# Altium integrated library Microchip Interface.IntLib: 329 symbols (part 2 of 10)
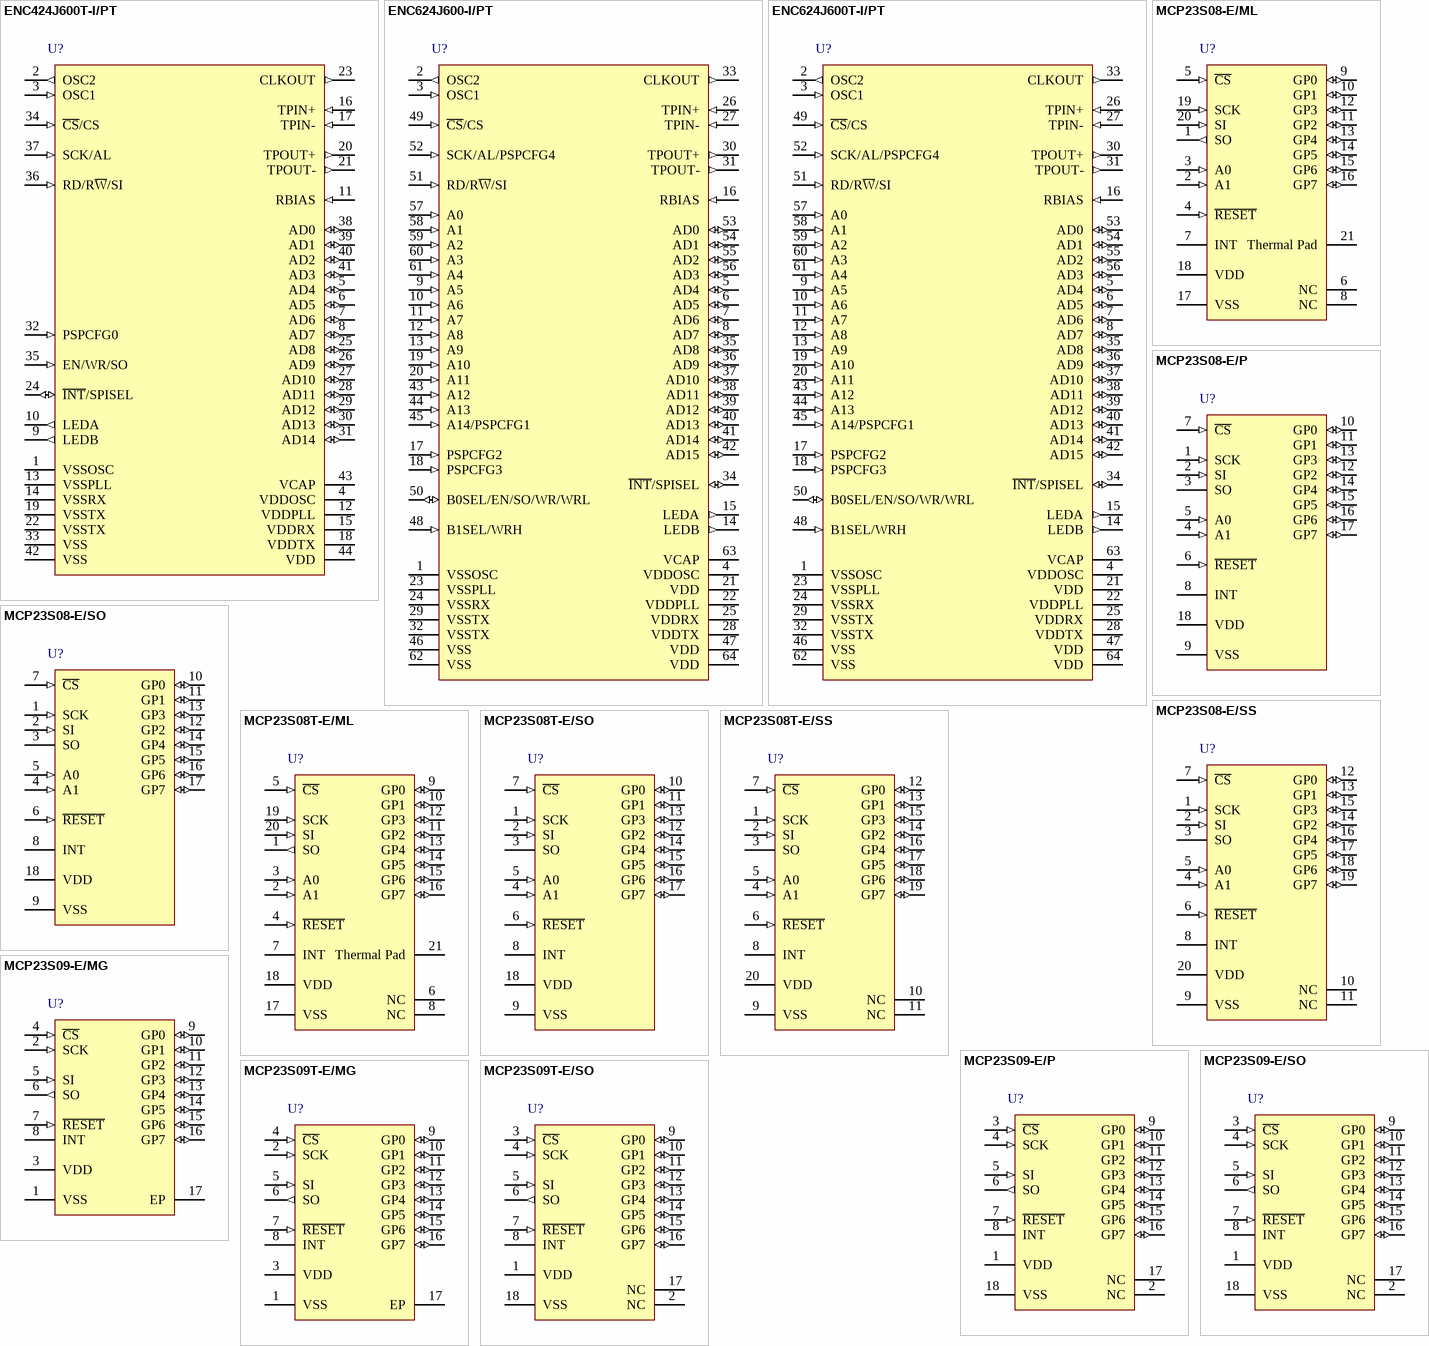
[diagram p14: symbols ENC424J600T-I/PT to MCP23S09T-E/SO]

## MCP23S08-E/P
designator U?
8-Bit I/O Expander with Serial Interface, 18-Pin PDIP, Extended Temperature; Manufacturer: Microchip; PartNumber: MCP23S08-E/P; DatasheetVersion: revE, Aug-2007; PackageVersion: revBB, Aug-2009; PackageReference: PDIP300-P18; PackageDescription: 18-Lead Plastic Dual In-Line (P) - 300 mil Body [PDIP]; Supplier 1: Digi-Key; Supplier Part Number 1: MCP23S08-E/P-ND; Supplier 2: Farnell; Supplier Part Number 2: 1332091; Supplier 3: Newark; Supplier Part Number 3: 34M7436; Supplier 4: Newark; Supplier Part Number 4: 08J8732; Supplier 5: Mouser; Supplier Part Number 5: 579-MCP23S08-E/P; Mounting Technology: Through Hole; Code_JEDEC: MS-001; ComponentLink1Description: Manufacturer URL; ComponentLink1URL: http://www.microchip.com/; ComponentLink2Description: Datasheet; ComponentLink2URL: http://ww1.microchip.com/downloads/en/DeviceDoc/21919e.pdf; ComponentLink3Description: Package Specification; ComponentLink3URL: http://www.microchip.com/stellent/groups/techpub_sg/documents/packagingspec/en012702.pdf
footprint PDIP300-P18 (DIP, 18-Leads, Row Spacing 7.62mm, Pitch 2.54mm, Body 22.9x6.6mm)
pins: 1 SCK (in), 2 SI (in), 3 SO (hiz), 4 A1 (in), 5 A0 (in), 6 ~{RESET} (in), 7 ~{CS} (in), 8 INT (oc), 9 VSS (power), 10 GP0 (io), 11 GP1 (io), 12 GP2 (io), 13 GP3 (io), 14 GP4 (io), 15 GP5 (io), 16 GP6 (io), 17 GP7 (io), 18 VDD (power)

## MCP23S08-E/SO
designator U?
8-Bit I/O Expander with Serial Interface, 18-Pin SOIC, Extended Temperature; Manufacturer: Microchip; PartNumber: MCP23S08-E/SO; DatasheetVersion: revE, Aug-2007; PackageVersion: revBB, Aug-2009; PackageReference: SOIC-SO18; PackageDescription: 18-Lead Plastic Small Outline (SO) - Wide 7.50mm Body [SOIC]; Supplier 1: Digi-Key; Supplier Part Number 1: MCP23S08-E/SO-ND; Supplier 2: Farnell; Supplier Part Number 2: 1332092; Supplier 3: Newark; Supplier Part Number 3: 08J8733; Supplier 4: Mouser; Supplier Part Number 4: 579-MCP23S08-E/SO; Mounting Technology: Surface Mount; Code_JEDEC: MS-013; ComponentLink1Description: Manufacturer URL; ComponentLink1URL: http://www.microchip.com/; ComponentLink2Description: Datasheet; ComponentLink2URL: http://ww1.microchip.com/downloads/en/DeviceDoc/21919e.pdf; ComponentLink3Description: Package Specification; ComponentLink3URL: http://www.microchip.com/stellent/groups/techpub_sg/documents/packagingspec/en012702.pdf
footprint SOIC-SO18_N (SOIC, 18-Leads, Body 11.5x7.5mm, Pitch 1.27mm, IPC Medium Density)
footprint SOIC-SO18_L (SOIC, 18-Leads, Body 11.5x7.5mm, Pitch 1.27mm, IPC High Density)
footprint SOIC-SO18_M (SOIC, 18-Leads, Body 11.5x7.5mm, Pitch 1.27mm, IPC Low Density)
pins: 1 SCK (in), 2 SI (in), 3 SO (hiz), 4 A1 (in), 5 A0 (in), 6 ~{RESET} (in), 7 ~{CS} (in), 8 INT (oc), 9 VSS (power), 10 GP0 (io), 11 GP1 (io), 12 GP2 (io), 13 GP3 (io), 14 GP4 (io), 15 GP5 (io), 16 GP6 (io), 17 GP7 (io), 18 VDD (power)

## MCP23S08-E/SS
designator U?
8-Bit I/O Expander with Serial Interface, 20-Pin SSOP, Extended Temperature; Manufacturer: Microchip; PartNumber: MCP23S08-E/SS; DatasheetVersion: revE, Aug-2007; PackageVersion: revBB, Aug-2009; PackageReference: SSOP-SS20; PackageDescription: 20-Lead Plastic Shrink Small Outline (SS) - 5.3mm Body [SSOP]; Supplier 1: Digi-Key; Supplier Part Number 1: MCP23S08-E/SS-ND; Supplier 2: Farnell; Supplier Part Number 2: 1292236; Supplier 3: Newark; Supplier Part Number 3: 08J8734; Supplier 4: Mouser; Supplier Part Number 4: 579-MCP23S08-E/SS; Mounting Technology: Surface Mount; Code_JEDEC: MO-150; ComponentLink1Description: Manufacturer URL; ComponentLink1URL: http://www.microchip.com/; ComponentLink2Description: Datasheet; ComponentLink2URL: http://ww1.microchip.com/downloads/en/DeviceDoc/21919e.pdf; ComponentLink3Description: Package Specification; ComponentLink3URL: http://www.microchip.com/stellent/groups/techpub_sg/documents/packagingspec/en012702.pdf
footprint SSOP-SS20_N (SOP, 20-Leads, Body 7.2x5.2mm, Pitch 0.65mm, IPC Medium Density)
footprint SSOP-SS20_L (SOP, 20-Leads, Body 7.2x5.2mm, Pitch 0.65mm, IPC High Density)
footprint SSOP-SS20_M (SOP, 20-Leads, Body 7.2x5.2mm, Pitch 0.65mm, IPC Low Density)
pins: 1 SCK (in), 2 SI (in), 3 SO (hiz), 4 A1 (in), 5 A0 (in), 6 ~{RESET} (in), 7 ~{CS} (in), 8 INT (oc), 9 VSS (power), 10 NC, 11 NC, 12 GP0 (io), 13 GP1 (io), 14 GP2 (io), 15 GP3 (io), 16 GP4 (io), 17 GP5 (io), 18 GP6 (io), 19 GP7 (io), 20 VDD (power)

## MCP23S08T-E/ML
designator U?
8-Bit I/O Expander with Serial Interface, 20-Pin QFN, Extended Temperature, Tape and Reel; Manufacturer: Microchip; PartNumber: MCP23S08T-E/ML; DatasheetVersion: revE, Aug-2007; PackageVersion: revBB, Aug-2009; PackageReference: QFN-ML20; PackageDescription: 20-Lead Plastic Quad Flat, No Lead Package (ML) - 4x4x0.9 mm Body [QFN]; Supplier 1: Digi-Key; Supplier Part Number 1: MCP23S08T-E/ML-ND; Supplier 2: Mouser; Supplier Part Number 2: 579-MCP23S08T-E/ML; Mounting Technology: Surface Mount; ComponentLink1Description: Manufacturer URL; ComponentLink1URL: http://www.microchip.com/; ComponentLink2Description: Datasheet; ComponentLink2URL: http://ww1.microchip.com/downloads/en/DeviceDoc/21919e.pdf; ComponentLink3Description: Package Specification; ComponentLink3URL: http://www.microchip.com/stellent/groups/techpub_sg/documents/packagingspec/en012702.pdf
footprint QFN-ML20_N (QFN, 20-Leads, Body 4x4mm, Pitch 0.5mm, Thermal Pad 2.8x2.8mm, IPC Medium Density)
footprint QFN-ML20_L (QFN, 20-Leads, Body 4x4mm, Pitch 0.5mm, Thermal Pad 2.8x2.8mm, IPC High Density)
footprint QFN-ML20_M (QFN, 20-Leads, Body 4x4mm, Pitch 0.5mm, Thermal Pad 2.8x2.8mm, IPC Low Density)
pins: 1 SO (out), 2 A1 (in), 3 A0 (in), 4 ~{RESET} (in), 5 ~{CS} (in), 6 NC, 7 INT (oc), 8 NC, 9 GP0 (io), 10 GP1 (io), 11 GP2 (io), 12 GP3 (io), 13 GP4 (io), 14 GP5 (io), 15 GP6 (io), 16 GP7 (io), 17 VSS (power), 18 VDD (power), 19 SCK (in), 20 SI (in), 21 Thermal Pad

## MCP23S08T-E/SO
designator U?
8-Bit I/O Expander with Serial Interface, 18-Pin SOIC, Extended Temperature, Tape and Reel; Manufacturer: Microchip; PartNumber: MCP23S08T-E/SO; DatasheetVersion: revE, Aug-2007; PackageVersion: revBB, Aug-2009; PackageReference: SOIC-SO18; PackageDescription: 18-Lead Plastic Small Outline (SO) - Wide 7.50mm Body [SOIC]; Supplier 1: Digi-Key; Supplier Part Number 1: MCP23S08T-E/SO-ND; Supplier 2: Newark; Supplier Part Number 2: 08J8735; Supplier 3: Mouser; Supplier Part Number 3: 579-MCP23S08T-E/SO; Mounting Technology: Surface Mount; Code_JEDEC: MS-013; ComponentLink1Description: Manufacturer URL; ComponentLink1URL: http://www.microchip.com/; ComponentLink2Description: Datasheet; ComponentLink2URL: http://ww1.microchip.com/downloads/en/DeviceDoc/21919e.pdf; ComponentLink3Description: Package Specification; ComponentLink3URL: http://www.microchip.com/stellent/groups/techpub_sg/documents/packagingspec/en012702.pdf
footprint SOIC-SO18_N (SOIC, 18-Leads, Body 11.5x7.5mm, Pitch 1.27mm, IPC Medium Density)
footprint SOIC-SO18_L (SOIC, 18-Leads, Body 11.5x7.5mm, Pitch 1.27mm, IPC High Density)
footprint SOIC-SO18_M (SOIC, 18-Leads, Body 11.5x7.5mm, Pitch 1.27mm, IPC Low Density)
pins: 1 SCK (in), 2 SI (in), 3 SO (hiz), 4 A1 (in), 5 A0 (in), 6 ~{RESET} (in), 7 ~{CS} (in), 8 INT (oc), 9 VSS (power), 10 GP0 (io), 11 GP1 (io), 12 GP2 (io), 13 GP3 (io), 14 GP4 (io), 15 GP5 (io), 16 GP6 (io), 17 GP7 (io), 18 VDD (power)

## MCP23S08T-E/SS
designator U?
8-Bit I/O Expander with Serial Interface, 20-Pin SSOP, Extended Temperature, Tape and Reel; Manufacturer: Microchip; PartNumber: MCP23S08T-E/SS; DatasheetVersion: revE, Aug-2007; PackageVersion: revBB, Aug-2009; PackageReference: SSOP-SS20; PackageDescription: 20-Lead Plastic Shrink Small Outline (SS) - 5.3mm Body [SSOP]; Supplier 1: Digi-Key; Supplier Part Number 1: MCP23S08T-E/SS-ND; Supplier 2: Mouser; Supplier Part Number 2: 579-MCP23S08T-E/SS; Mounting Technology: Surface Mount; Code_JEDEC: MO-150; ComponentLink1Description: Manufacturer URL; ComponentLink1URL: http://www.microchip.com/; ComponentLink2Description: Datasheet; ComponentLink2URL: http://ww1.microchip.com/downloads/en/DeviceDoc/21919e.pdf; ComponentLink3Description: Package Specification; ComponentLink3URL: http://www.microchip.com/stellent/groups/techpub_sg/documents/packagingspec/en012702.pdf
footprint SSOP-SS20_N (SOP, 20-Leads, Body 7.2x5.2mm, Pitch 0.65mm, IPC Medium Density)
footprint SSOP-SS20_L (SOP, 20-Leads, Body 7.2x5.2mm, Pitch 0.65mm, IPC High Density)
footprint SSOP-SS20_M (SOP, 20-Leads, Body 7.2x5.2mm, Pitch 0.65mm, IPC Low Density)
pins: 1 SCK (in), 2 SI (in), 3 SO (hiz), 4 A1 (in), 5 A0 (in), 6 ~{RESET} (in), 7 ~{CS} (in), 8 INT (oc), 9 VSS (power), 10 NC, 11 NC, 12 GP0 (io), 13 GP1 (io), 14 GP2 (io), 15 GP3 (io), 16 GP4 (io), 17 GP5 (io), 18 GP6 (io), 19 GP7 (io), 20 VDD (power)

## MCP23S09-E/MG
designator U?
8-Bit I/O Expander with Open-Drain Outputs, High-Speed SPI Interface, 16-Pin QFN, Extended Temperature; Manufacturer: Microchip; PartNumber: MCP23S09-E/MG; DatasheetVersion: revB, May-2009; PackageVersion: revBB, Aug-2009; PackageReference: QFN-MG16; PackageDescription: 16-Lead Plastic Quad Flat, No Lead Package (MG) - 3x3x0.9 mm Body [QFN]; Supplier 1: Digi-Key; Supplier Part Number 1: MCP23S09-E/MG-ND; Supplier 2: Newark; Supplier Part Number 2: 98M1572; Supplier 3: Mouser; Supplier Part Number 3: 579-MCP23S09-E/MG; Mounting Technology: Surface Mount; ComponentLink1Description: Manufacturer URL; ComponentLink1URL: http://www.microchip.com/; ComponentLink2Description: Datasheet; ComponentLink2URL: http://ww1.microchip.com/downloads/en/DeviceDoc/22121b.pdf; ComponentLink3Description: Package Specification; ComponentLink3URL: http://www.microchip.com/stellent/groups/techpub_sg/documents/packagingspec/en012702.pdf
footprint QFN-MG16_N (QFN, 16-Leads, Body 3x3mm, Pitch 0.5mm, Thermal Pad 1.5x1.5mm, IPC Medium Density)
footprint QFN-MG16_L (QFN, 16-Leads, Body 3x3mm, Pitch 0.5mm, Thermal Pad 1.5x1.5mm, IPC High Density)
footprint QFN-MG16_M (QFN, 16-Leads, Body 3x3mm, Pitch 0.5mm, Thermal Pad 1.5x1.5mm, IPC Low Density)
pins: 1 VSS (power), 2 SCK (in), 3 VDD (power), 4 ~{CS} (in), 5 SI (in), 6 SO (out), 7 ~{RESET} (in), 8 INT (oc), 9 GP0 (io), 10 GP1 (io), 11 GP2 (io), 12 GP3 (io), 13 GP4 (io), 14 GP5 (io), 15 GP6 (io), 16 GP7 (io), 17 EP

## MCP23S09-E/P
designator U?
8-Bit I/O Expander with Open-Drain Outputs, High-Speed SPI Interface, 18-Pin PDIP, Extended Temperature; Manufacturer: Microchip; PartNumber: MCP23S09-E/P; DatasheetVersion: revB, May-2009; PackageVersion: revBB, Aug-2009; PackageReference: PDIP300-P18; PackageDescription: 18-Lead Plastic Dual In-Line (P) - 300 mil Body [PDIP]; Supplier 1: Digi-Key; Supplier Part Number 1: MCP23S09-E/P-ND; Supplier 2: Farnell; Supplier Part Number 2: 1699843; Supplier 3: Newark; Supplier Part Number 3: 07P9503; Supplier 4: Mouser; Supplier Part Number 4: 579-MCP23S09-E/P; Mounting Technology: Through Hole; Code_JEDEC: MS-001; ComponentLink1Description: Manufacturer URL; ComponentLink1URL: http://www.microchip.com/; ComponentLink2Description: Datasheet; ComponentLink2URL: http://ww1.microchip.com/downloads/en/DeviceDoc/22121b.pdf; ComponentLink3Description: Package Specification; ComponentLink3URL: http://www.microchip.com/stellent/groups/techpub_sg/documents/packagingspec/en012702.pdf
footprint PDIP300-P18 (DIP, 18-Leads, Row Spacing 7.62mm, Pitch 2.54mm, Body 22.9x6.6mm)
pins: 1 VDD (power), 2 NC, 3 ~{CS} (in), 4 SCK (in), 5 SI (in), 6 SO (out), 7 ~{RESET} (in), 8 INT (oc), 9 GP0 (io), 10 GP1 (io), 11 GP2 (io), 12 GP3 (io), 13 GP4 (io), 14 GP5 (io), 15 GP6 (io), 16 GP7 (io), 17 NC, 18 VSS (power)

## MCP23S09-E/SO
designator U?
8-Bit I/O Expander with Open-Drain Outputs, High-Speed SPI Interface, 18-Pin SOIC, Extended Temperature; Manufacturer: Microchip; PartNumber: MCP23S09-E/SO; DatasheetVersion: revB, May-2009; PackageVersion: revBB, Aug-2009; PackageReference: SOIC-SO18; PackageDescription: 18-Lead Plastic Small Outline (SO) - Wide 7.50mm Body [SOIC]; Supplier 1: Digi-Key; Supplier Part Number 1: MCP23S09-E/SO-ND; Supplier 2: Farnell; Supplier Part Number 2: 1699844; Supplier 3: Newark; Supplier Part Number 3: 07P9504; Supplier 4: Mouser; Supplier Part Number 4: 579-MCP23S09-E/SO; Mounting Technology: Surface Mount; Code_JEDEC: MS-013; ComponentLink1Description: Manufacturer URL; ComponentLink1URL: http://www.microchip.com/; ComponentLink2Description: Datasheet; ComponentLink2URL: http://ww1.microchip.com/downloads/en/DeviceDoc/22121b.pdf; ComponentLink3Description: Package Specification; ComponentLink3URL: http://www.microchip.com/stellent/groups/techpub_sg/documents/packagingspec/en012702.pdf
footprint SOIC-SO18_N (SOIC, 18-Leads, Body 11.5x7.5mm, Pitch 1.27mm, IPC Medium Density)
footprint SOIC-SO18_L (SOIC, 18-Leads, Body 11.5x7.5mm, Pitch 1.27mm, IPC High Density)
footprint SOIC-SO18_M (SOIC, 18-Leads, Body 11.5x7.5mm, Pitch 1.27mm, IPC Low Density)
pins: 1 VDD (power), 2 NC, 3 ~{CS} (in), 4 SCK (in), 5 SI (in), 6 SO (out), 7 ~{RESET} (in), 8 INT (oc), 9 GP0 (io), 10 GP1 (io), 11 GP2 (io), 12 GP3 (io), 13 GP4 (io), 14 GP5 (io), 15 GP6 (io), 16 GP7 (io), 17 NC, 18 VSS (power)

## MCP23S09T-E/MG
designator U?
8-Bit I/O Expander with Open-Drain Outputs, High-Speed SPI Interface, 16-Pin QFN, Extended Temperature, Tape and Reel; Manufacturer: Microchip; PartNumber: MCP23S09T-E/MG; DatasheetVersion: revB, May-2009; PackageVersion: revBB, Aug-2009; PackageReference: QFN-MG16; PackageDescription: 16-Lead Plastic Quad Flat, No Lead Package (MG) - 3x3x0.9 mm Body [QFN]; Supplier 1: Digi-Key; Supplier Part Number 1: MCP23S09T-E/MG-ND; Supplier 2: Newark; Supplier Part Number 2: 98M1573; Supplier 3: Mouser; Supplier Part Number 3: 579-MCP23S09T-E/MG; Mounting Technology: Surface Mount; ComponentLink1Description: Manufacturer URL; ComponentLink1URL: http://www.microchip.com/; ComponentLink2Description: Datasheet; ComponentLink2URL: http://ww1.microchip.com/downloads/en/DeviceDoc/22121b.pdf; ComponentLink3Description: Package Specification; ComponentLink3URL: http://www.microchip.com/stellent/groups/techpub_sg/documents/packagingspec/en012702.pdf
footprint QFN-MG16_N (QFN, 16-Leads, Body 3x3mm, Pitch 0.5mm, Thermal Pad 1.5x1.5mm, IPC Medium Density)
footprint QFN-MG16_L (QFN, 16-Leads, Body 3x3mm, Pitch 0.5mm, Thermal Pad 1.5x1.5mm, IPC High Density)
footprint QFN-MG16_M (QFN, 16-Leads, Body 3x3mm, Pitch 0.5mm, Thermal Pad 1.5x1.5mm, IPC Low Density)
pins: 1 VSS (power), 2 SCK (in), 3 VDD (power), 4 ~{CS} (in), 5 SI (in), 6 SO (out), 7 ~{RESET} (in), 8 INT (oc), 9 GP0 (io), 10 GP1 (io), 11 GP2 (io), 12 GP3 (io), 13 GP4 (io), 14 GP5 (io), 15 GP6 (io), 16 GP7 (io), 17 EP

## MCP23S09T-E/SO
designator U?
8-Bit I/O Expander with Open-Drain Outputs, High-Speed SPI Interface, 18-Pin SOIC, Extended Temperature, Tape and Reel; Manufacturer: Microchip; PartNumber: MCP23S09T-E/SO; DatasheetVersion: revB, May-2009; PackageVersion: revBB, Aug-2009; PackageReference: SOIC-SO18; PackageDescription: 18-Lead Plastic Small Outline (SO) - Wide 7.50mm Body [SOIC]; Supplier 1: Digi-Key; Supplier Part Number 1: MCP23S09T-E/SO-ND; Supplier 2: Mouser; Supplier Part Number 2: 579-MCP23S09T-E/SO; Mounting Technology: Surface Mount; Code_JEDEC: MS-013; ComponentLink1Description: Manufacturer URL; ComponentLink1URL: http://www.microchip.com/; ComponentLink2Description: Datasheet; ComponentLink2URL: http://ww1.microchip.com/downloads/en/DeviceDoc/22121b.pdf; ComponentLink3Description: Package Specification; ComponentLink3URL: http://www.microchip.com/stellent/groups/techpub_sg/documents/packagingspec/en012702.pdf
footprint SOIC-SO18_N (SOIC, 18-Leads, Body 11.5x7.5mm, Pitch 1.27mm, IPC Medium Density)
footprint SOIC-SO18_L (SOIC, 18-Leads, Body 11.5x7.5mm, Pitch 1.27mm, IPC High Density)
footprint SOIC-SO18_M (SOIC, 18-Leads, Body 11.5x7.5mm, Pitch 1.27mm, IPC Low Density)
pins: 1 VDD (power), 2 NC, 3 ~{CS} (in), 4 SCK (in), 5 SI (in), 6 SO (out), 7 ~{RESET} (in), 8 INT (oc), 9 GP0 (io), 10 GP1 (io), 11 GP2 (io), 12 GP3 (io), 13 GP4 (io), 14 GP5 (io), 15 GP6 (io), 16 GP7 (io), 17 NC, 18 VSS (power)

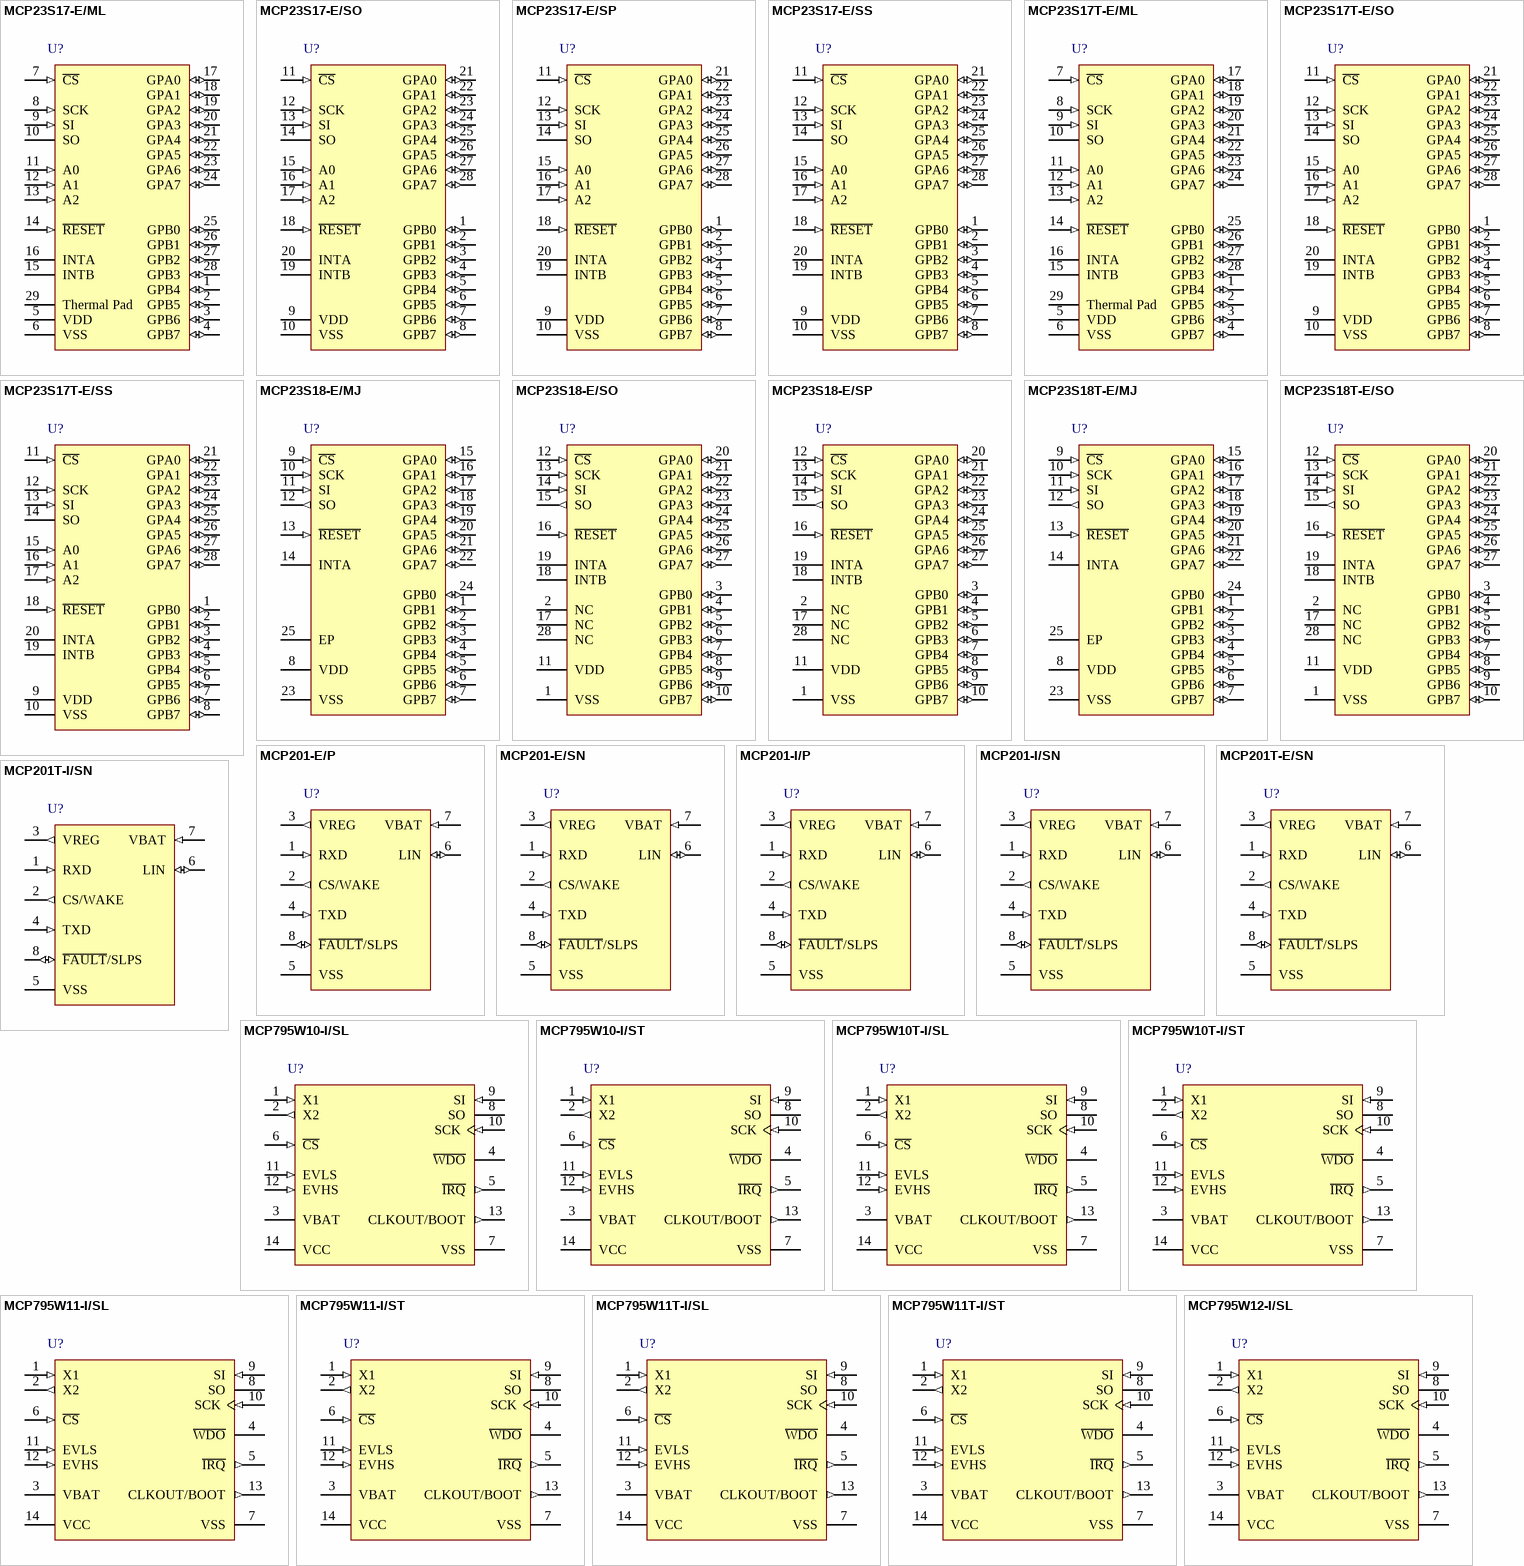
[diagram p3: symbols MCP23S17-E/ML to MCP795W12-I/SL]

## MCP23S17-E/ML
designator U?
16-Bit I/O Expander with Serial Interface, 28-Pin QFN, Extended Temperature; Manufacturer: Microchip; PartNumber: MCP23S17-E/ML; DatasheetVersion: revB, Feb-2007; PackageVersion: revBB, Aug-2009; PackageReference: QFN-ML28; PackageDescription: 28-Lead Plastic Quad Flat, No Lead Package (ML) - 6x6 mm Body [QFN] with 0.55 mm Contact Length; Supplier 1: Digi-Key; Supplier Part Number 1: MCP23S17-E/ML-ND; Supplier 2: Newark; Supplier Part Number 2: 31K2949; Supplier 3: Mouser; Supplier Part Number 3: 579-MCP23S17-E/ML; Mounting Technology: Surface Mount; Code_JEDEC: MO-220; ComponentLink1Description: Manufacturer URL; ComponentLink1URL: http://www.microchip.com/; ComponentLink2Description: Datasheet; ComponentLink2URL: http://ww1.microchip.com/downloads/en/DeviceDoc/21952b.pdf; ComponentLink3Description: Package Specification; ComponentLink3URL: http://www.microchip.com/stellent/groups/techpub_sg/documents/packagingspec/en012702.pdf
footprint QFN-ML28_N (QFN, 28-Leads, Body 6x6mm, Pitch 0.65mm, Thermal Pad 4.2x4.2mm, IPC Medium Density)
footprint QFN-ML28_L (QFN, 28-Leads, Body 6x6mm, Pitch 0.65mm, Thermal Pad 4.2x4.2mm, IPC High Density)
footprint QFN-ML28_M (QFN, 28-Leads, Body 6x6mm, Pitch 0.65mm, Thermal Pad 4.2x4.2mm, IPC Low Density)
pins: 1 GPB4 (io), 2 GPB5 (io), 3 GPB6 (io), 4 GPB7 (io), 5 VDD (power), 6 VSS (power), 7 ~{CS} (in), 8 SCK (in), 9 SI (in), 10 SO (hiz), 11 A0 (in), 12 A1 (in), 13 A2 (in), 14 ~{RESET} (in), 15 INTB (oc), 16 INTA (oc), 17 GPA0 (io), 18 GPA1 (io), 19 GPA2 (io), 20 GPA3 (io), 21 GPA4 (io), 22 GPA5 (io), 23 GPA6 (io), 24 GPA7 (io), 25 GPB0 (io), 26 GPB1 (io), 27 GPB2 (io), 28 GPB3 (io), 29 Thermal Pad

## MCP23S17-E/SO
designator U?
16-Bit I/O Expander with Serial Interface, 28-Pin SOIC, Extended Temperature; Manufacturer: Microchip; PartNumber: MCP23S17-E/SO; DatasheetVersion: revB, Feb-2007; PackageVersion: revBB, Aug-2009; PackageReference: SOIC-SO28; PackageDescription: 28-Lead Plastic Small Outline (SO) - Wide 7.50mm Body [SOIC]; Supplier 1: Digi-Key; Supplier Part Number 1: MCP23S17-E/SO-ND; Supplier 2: Farnell; Supplier Part Number 2: 1332093; Supplier 3: Newark; Supplier Part Number 3: 31K2950; Supplier 4: Mouser; Supplier Part Number 4: 579-MCP23S17-E/SO; Mounting Technology: Surface Mount; Code_JEDEC: MS-013; ComponentLink1Description: Manufacturer URL; ComponentLink1URL: http://www.microchip.com/; ComponentLink2Description: Datasheet; ComponentLink2URL: http://ww1.microchip.com/downloads/en/DeviceDoc/21952b.pdf; ComponentLink3Description: Package Specification; ComponentLink3URL: http://www.microchip.com/stellent/groups/techpub_sg/documents/packagingspec/en012702.pdf
footprint SOIC-SO28_N (SOIC, 28-Leads, Body 17.9x7.5mm, Pitch 1.27mm, IPC Medium Density)
footprint SOIC-SO28_L (SOIC, 28-Leads, Body 17.9x7.5mm, Pitch 1.27mm, IPC High Density)
footprint SOIC-SO28_M (SOIC, 28-Leads, Body 17.9x7.5mm, Pitch 1.27mm, IPC Low Density)
pins: 1 GPB0 (io), 2 GPB1 (io), 3 GPB2 (io), 4 GPB3 (io), 5 GPB4 (io), 6 GPB5 (io), 7 GPB6 (io), 8 GPB7 (io), 9 VDD (power), 10 VSS (power), 11 ~{CS} (in), 12 SCK (in), 13 SI (in), 14 SO (hiz), 15 A0 (in), 16 A1 (in), 17 A2 (in), 18 ~{RESET} (in), 19 INTB (oc), 20 INTA (oc), 21 GPA0 (io), 22 GPA1 (io), 23 GPA2 (io), 24 GPA3 (io), 25 GPA4 (io), 26 GPA5 (io), 27 GPA6 (io), 28 GPA7 (io)

## MCP23S17-E/SP
designator U?
16-Bit I/O Expander with Serial Interface, 28-Pin SPDIP, Extended Temperature; Manufacturer: Microchip; PartNumber: MCP23S17-E/SP; DatasheetVersion: revB, Feb-2007; PackageVersion: revBB, Aug-2009; PackageReference: SPDIP300-SP28; PackageDescription: 28-Lead Skinny Plastic Dual In-Line (SP) - 300 mil Body [SPDIP]; Supplier 1: Digi-Key; Supplier Part Number 1: MCP23S17-E/SP-ND; Supplier 2: Farnell; Supplier Part Number 2: 1292238; Supplier 3: Newark; Supplier Part Number 3: 31K2951; Supplier 4: Mouser; Supplier Part Number 4: 579-MCP23S17-E/SP; Mounting Technology: Through Hole; ComponentLink1Description: Manufacturer URL; ComponentLink1URL: http://www.microchip.com/; ComponentLink2Description: Datasheet; ComponentLink2URL: http://ww1.microchip.com/downloads/en/DeviceDoc/21952b.pdf; ComponentLink3Description: Package Specification; ComponentLink3URL: http://www.microchip.com/stellent/groups/techpub_sg/documents/packagingspec/en012702.pdf
footprint SPDIP300-SP28 (DIP, 28-Leads, Row Spacing 7.62mm, Pitch 2.54mm, Body 34.9x6.8mm)
pins: 1 GPB0 (io), 2 GPB1 (io), 3 GPB2 (io), 4 GPB3 (io), 5 GPB4 (io), 6 GPB5 (io), 7 GPB6 (io), 8 GPB7 (io), 9 VDD (power), 10 VSS (power), 11 ~{CS} (in), 12 SCK (in), 13 SI (in), 14 SO (hiz), 15 A0 (in), 16 A1 (in), 17 A2 (in), 18 ~{RESET} (in), 19 INTB (oc), 20 INTA (oc), 21 GPA0 (io), 22 GPA1 (io), 23 GPA2 (io), 24 GPA3 (io), 25 GPA4 (io), 26 GPA5 (io), 27 GPA6 (io), 28 GPA7 (io)

## MCP23S17-E/SS
designator U?
16-Bit I/O Expander with Serial Interface, 28-Pin SSOP, Extended Temperature; Manufacturer: Microchip; PartNumber: MCP23S17-E/SS; DatasheetVersion: revB, Feb-2007; PackageVersion: revBB, Aug-2009; PackageReference: SSOP-SS28; PackageDescription: 28-Lead Plastic Shrink Small Outline (SS) - 5.3mm Body [SSOP]; Supplier 1: Digi-Key; Supplier Part Number 1: MCP23S17-E/SS-ND; Supplier 2: Farnell; Supplier Part Number 2: 1467675; Supplier 3: Newark; Supplier Part Number 3: 31K2952; Supplier 4: Mouser; Supplier Part Number 4: 579-MCP23S17-E/SS; Mounting Technology: Surface Mount; Code_JEDEC: MS-150; ComponentLink1Description: Manufacturer URL; ComponentLink1URL: http://www.microchip.com/; ComponentLink2Description: Datasheet; ComponentLink2URL: http://ww1.microchip.com/downloads/en/DeviceDoc/21952b.pdf; ComponentLink3Description: Package Specification; ComponentLink3URL: http://www.microchip.com/stellent/groups/techpub_sg/documents/packagingspec/en012702.pdf
footprint SSOP-SS28_N (SOP, 28-Leads, Body 10.2x5.2mm, Pitch 0.65mm, IPC Medium Density)
footprint SSOP-SS28_L (SOP, 28-Leads, Body 10.2x5.2mm, Pitch 0.65mm, IPC High Density)
footprint SSOP-SS28_M (SOP, 28-Leads, Body 10.2x5.2mm, Pitch 0.65mm, IPC Low Density)
pins: 1 GPB0 (io), 2 GPB1 (io), 3 GPB2 (io), 4 GPB3 (io), 5 GPB4 (io), 6 GPB5 (io), 7 GPB6 (io), 8 GPB7 (io), 9 VDD (power), 10 VSS (power), 11 ~{CS} (in), 12 SCK (in), 13 SI (in), 14 SO (hiz), 15 A0 (in), 16 A1 (in), 17 A2 (in), 18 ~{RESET} (in), 19 INTB (oc), 20 INTA (oc), 21 GPA0 (io), 22 GPA1 (io), 23 GPA2 (io), 24 GPA3 (io), 25 GPA4 (io), 26 GPA5 (io), 27 GPA6 (io), 28 GPA7 (io)

## MCP23S17T-E/ML
designator U?
16-Bit I/O Expander with Serial Interface, 28-Pin QFN, Extended Temperature, Tape and Reel; Manufacturer: Microchip; PartNumber: MCP23S17T-E/ML; DatasheetVersion: revB, Feb-2007; PackageVersion: revBB, Aug-2009; PackageReference: QFN-ML28; PackageDescription: 28-Lead Plastic Quad Flat, No Lead Package (ML) - 6x6 mm Body [QFN] with 0.55 mm Contact Length; Supplier 1: Digi-Key; Supplier Part Number 1: MCP23S17T-E/ML-ND; Supplier 2: Mouser; Supplier Part Number 2: 579-MCP23S17T-E/ML; Mounting Technology: Surface Mount; Code_JEDEC: MO-220; ComponentLink1Description: Manufacturer URL; ComponentLink1URL: http://www.microchip.com/; ComponentLink2Description: Datasheet; ComponentLink2URL: http://ww1.microchip.com/downloads/en/DeviceDoc/21952b.pdf; ComponentLink3Description: Package Specification; ComponentLink3URL: http://www.microchip.com/stellent/groups/techpub_sg/documents/packagingspec/en012702.pdf
footprint QFN-ML28_N (QFN, 28-Leads, Body 6x6mm, Pitch 0.65mm, Thermal Pad 4.2x4.2mm, IPC Medium Density)
footprint QFN-ML28_L (QFN, 28-Leads, Body 6x6mm, Pitch 0.65mm, Thermal Pad 4.2x4.2mm, IPC High Density)
footprint QFN-ML28_M (QFN, 28-Leads, Body 6x6mm, Pitch 0.65mm, Thermal Pad 4.2x4.2mm, IPC Low Density)
pins: 1 GPB4 (io), 2 GPB5 (io), 3 GPB6 (io), 4 GPB7 (io), 5 VDD (power), 6 VSS (power), 7 ~{CS} (in), 8 SCK (in), 9 SI (in), 10 SO (hiz), 11 A0 (in), 12 A1 (in), 13 A2 (in), 14 ~{RESET} (in), 15 INTB (oc), 16 INTA (oc), 17 GPA0 (io), 18 GPA1 (io), 19 GPA2 (io), 20 GPA3 (io), 21 GPA4 (io), 22 GPA5 (io), 23 GPA6 (io), 24 GPA7 (io), 25 GPB0 (io), 26 GPB1 (io), 27 GPB2 (io), 28 GPB3 (io), 29 Thermal Pad

## MCP23S17T-E/SO
designator U?
16-Bit I/O Expander with Serial Interface, 28-Pin SOIC, Extended Temperature, Tape and Reel; Manufacturer: Microchip; PartNumber: MCP23S17T-E/SO; DatasheetVersion: revB, Feb-2007; PackageVersion: revBB, Aug-2009; PackageReference: SOIC-SO28; PackageDescription: 28-Lead Plastic Small Outline (SO) - Wide 7.50mm Body [SOIC]; Supplier 1: Digi-Key; Supplier Part Number 1: MCP23S17T-E/SO-ND; Supplier 2: Farnell; Supplier Part Number 2: 2101293; Supplier 3: Newark; Supplier Part Number 3: 31K2954; Supplier 4: Mouser; Supplier Part Number 4: 579-MCP23S17T-E/SO; Mounting Technology: Surface Mount; Code_JEDEC: MS-013; ComponentLink1Description: Manufacturer URL; ComponentLink1URL: http://www.microchip.com/; ComponentLink2Description: Datasheet; ComponentLink2URL: http://ww1.microchip.com/downloads/en/DeviceDoc/21952b.pdf; ComponentLink3Description: Package Specification; ComponentLink3URL: http://www.microchip.com/stellent/groups/techpub_sg/documents/packagingspec/en012702.pdf
footprint SOIC-SO28_N (SOIC, 28-Leads, Body 17.9x7.5mm, Pitch 1.27mm, IPC Medium Density)
footprint SOIC-SO28_L (SOIC, 28-Leads, Body 17.9x7.5mm, Pitch 1.27mm, IPC High Density)
footprint SOIC-SO28_M (SOIC, 28-Leads, Body 17.9x7.5mm, Pitch 1.27mm, IPC Low Density)
pins: 1 GPB0 (io), 2 GPB1 (io), 3 GPB2 (io), 4 GPB3 (io), 5 GPB4 (io), 6 GPB5 (io), 7 GPB6 (io), 8 GPB7 (io), 9 VDD (power), 10 VSS (power), 11 ~{CS} (in), 12 SCK (in), 13 SI (in), 14 SO (hiz), 15 A0 (in), 16 A1 (in), 17 A2 (in), 18 ~{RESET} (in), 19 INTB (oc), 20 INTA (oc), 21 GPA0 (io), 22 GPA1 (io), 23 GPA2 (io), 24 GPA3 (io), 25 GPA4 (io), 26 GPA5 (io), 27 GPA6 (io), 28 GPA7 (io)

## MCP23S17T-E/SS
designator U?
16-Bit I/O Expander with Serial Interface, 28-Pin SSOP, Extended Temperature, Tape and Reel; Manufacturer: Microchip; PartNumber: MCP23S17T-E/SS; DatasheetVersion: revB, Feb-2007; PackageVersion: revBB, Aug-2009; PackageReference: SSOP-SS28; PackageDescription: 28-Lead Plastic Shrink Small Outline (SS) - 5.3mm Body [SSOP]; Supplier 1: Digi-Key; Supplier Part Number 1: MCP23S17T-E/SS-ND; Supplier 2: Newark; Supplier Part Number 2: 31K2955; Supplier 3: Mouser; Supplier Part Number 3: 579-MCP23S17T-E/SS; Mounting Technology: Surface Mount; Code_JEDEC: MS-150; ComponentLink1Description: Manufacturer URL; ComponentLink1URL: http://www.microchip.com/; ComponentLink2Description: Datasheet; ComponentLink2URL: http://ww1.microchip.com/downloads/en/DeviceDoc/21952b.pdf; ComponentLink3Description: Package Specification; ComponentLink3URL: http://www.microchip.com/stellent/groups/techpub_sg/documents/packagingspec/en012702.pdf
footprint SSOP-SS28_N (SOP, 28-Leads, Body 10.2x5.2mm, Pitch 0.65mm, IPC Medium Density)
footprint SSOP-SS28_L (SOP, 28-Leads, Body 10.2x5.2mm, Pitch 0.65mm, IPC High Density)
footprint SSOP-SS28_M (SOP, 28-Leads, Body 10.2x5.2mm, Pitch 0.65mm, IPC Low Density)
pins: 1 GPB0 (io), 2 GPB1 (io), 3 GPB2 (io), 4 GPB3 (io), 5 GPB4 (io), 6 GPB5 (io), 7 GPB6 (io), 8 GPB7 (io), 9 VDD (power), 10 VSS (power), 11 ~{CS} (in), 12 SCK (in), 13 SI (in), 14 SO (hiz), 15 A0 (in), 16 A1 (in), 17 A2 (in), 18 ~{RESET} (in), 19 INTB (oc), 20 INTA (oc), 21 GPA0 (io), 22 GPA1 (io), 23 GPA2 (io), 24 GPA3 (io), 25 GPA4 (io), 26 GPA5 (io), 27 GPA6 (io), 28 GPA7 (io)

## MCP23S18-E/MJ
designator U?
8-Bit I/O Expander with Open-Drain Outputs, High-Speed SPI Interface, 24-Pin QFN, Extended Temperature; Manufacturer: Microchip; PartNumber: MCP23S18-E/MJ; DatasheetVersion: revA, Sep-2008; PackageVersion: revBB, Aug-2009; PackageReference: QFN-MJ24; PackageDescription: 24-Lead Plastic Quad Flat, No Lead Package (MJ) - 4x4x0.9mm Body [QFN]; Supplier 1: Digi-Key; Supplier Part Number 1: MCP23S18-E/MJ-ND; Supplier 2: Farnell; Supplier Part Number 2: 1854492; Supplier 3: Newark; Supplier Part Number 3: 98M1574; Supplier 4: Mouser; Supplier Part Number 4: 579-MCP23S18-E/MJ; Mounting Technology: Surface Mount; ComponentLink1Description: Manufacturer URL; ComponentLink1URL: http://www.microchip.com/; ComponentLink2Description: Datasheet; ComponentLink2URL: http://ww1.microchip.com/downloads/en/DeviceDoc/22103a.pdf; ComponentLink3Description: Package Specification; ComponentLink3URL: http://www.microchip.com/stellent/groups/techpub_sg/documents/packagingspec/en012702.pdf
footprint QFN-MJ24 (QFN, 24-Leads, Body 4x4mm, Pitch 0.5mm, Thermal Pad 2.6x2.6mm, Microchip Recommended)
pins: 1 GPB1 (io), 2 GPB2 (io), 3 GPB3 (io), 4 GPB4 (io), 5 GPB5 (io), 6 GPB6 (io), 7 GPB7 (io), 8 VDD (power), 9 ~{CS} (in), 10 SCK (in), 11 SI (in), 12 SO (out), 13 ~{RESET} (in), 14 INTA (oc), 15 GPA0 (io), 16 GPA1 (io), 17 GPA2 (io), 18 GPA3 (io), 19 GPA4 (io), 20 GPA5 (io), 21 GPA6 (io), 22 GPA7 (io), 23 VSS (power), 24 GPB0 (io), 25 EP

## MCP23S18-E/SO
designator U?
8-Bit I/O Expander with Open-Drain Outputs, High-Speed SPI Interface, 28-Pin SOIC, Extended Temperature; Manufacturer: Microchip; PartNumber: MCP23S18-E/SO; DatasheetVersion: revA, Sep-2008; PackageVersion: revBB, Aug-2009; PackageReference: SOIC-SO28; PackageDescription: 28-Lead Plastic Small Outline (SO) - Wide 7.50mm Body [SOIC]; Supplier 1: Digi-Key; Supplier Part Number 1: MCP23S18-E/SO-ND; Supplier 2: Newark; Supplier Part Number 2: 98M1575; Supplier 3: Mouser; Supplier Part Number 3: 579-MCP23S18-E/SO; Mounting Technology: Surface Mount; Code_JEDEC: MS-013; ComponentLink1Description: Manufacturer URL; ComponentLink1URL: http://www.microchip.com/; ComponentLink2Description: Datasheet; ComponentLink2URL: http://ww1.microchip.com/downloads/en/DeviceDoc/22103a.pdf; ComponentLink3Description: Package Specification; ComponentLink3URL: http://www.microchip.com/stellent/groups/techpub_sg/documents/packagingspec/en012702.pdf
footprint SOIC-SO28_N (SOIC, 28-Leads, Body 17.9x7.5mm, Pitch 1.27mm, IPC Medium Density)
footprint SOIC-SO28_L (SOIC, 28-Leads, Body 17.9x7.5mm, Pitch 1.27mm, IPC High Density)
footprint SOIC-SO28_M (SOIC, 28-Leads, Body 17.9x7.5mm, Pitch 1.27mm, IPC Low Density)
pins: 1 VSS (power), 2 NC, 3 GPB0 (io), 4 GPB1 (io), 5 GPB2 (io), 6 GPB3 (io), 7 GPB4 (io), 8 GPB5 (io), 9 GPB6 (io), 10 GPB7 (io), 11 VDD (power), 12 ~{CS} (in), 13 SCK (in), 14 SI (in), 15 SO (out), 16 ~{RESET} (in), 17 NC, 18 INTB (oc), 19 INTA (oc), 20 GPA0 (io), 21 GPA1 (io), 22 GPA2 (io), 23 GPA3 (io), 24 GPA4 (io), 25 GPA5 (io), 26 GPA6 (io), 27 GPA7 (io), 28 NC

## MCP23S18-E/SP
designator U?
8-Bit I/O Expander with Open-Drain Outputs, High-Speed SPI Interface, 28-Pin SPDIP, Extended Temperature; Manufacturer: Microchip; PartNumber: MCP23S18-E/SP; DatasheetVersion: revA, Sep-2008; PackageVersion: revBB, Aug-2009; PackageReference: SPDIP300-SP28; PackageDescription: 28-Lead Skinny Plastic Dual In-Line (SP) - 300 mil Body [SPDIP]; Supplier 1: Digi-Key; Supplier Part Number 1: MCP23S18-E/SP-ND; Supplier 2: Newark; Supplier Part Number 2: 98M1576; Supplier 3: Mouser; Supplier Part Number 3: 579-MCP23S18-E/SP; Mounting Technology: Through Hole; ComponentLink1Description: Manufacturer URL; ComponentLink1URL: http://www.microchip.com/; ComponentLink2Description: Datasheet; ComponentLink2URL: http://ww1.microchip.com/downloads/en/DeviceDoc/22103a.pdf; ComponentLink3Description: Package Specification; ComponentLink3URL: http://www.microchip.com/stellent/groups/techpub_sg/documents/packagingspec/en012702.pdf
footprint SPDIP300-SP28 (DIP, 28-Leads, Row Spacing 7.62mm, Pitch 2.54mm, Body 34.9x6.8mm)
pins: 1 VSS (power), 2 NC, 3 GPB0 (io), 4 GPB1 (io), 5 GPB2 (io), 6 GPB3 (io), 7 GPB4 (io), 8 GPB5 (io), 9 GPB6 (io), 10 GPB7 (io), 11 VDD (power), 12 ~{CS} (in), 13 SCK (in), 14 SI (in), 15 SO (out), 16 ~{RESET} (in), 17 NC, 18 INTB (oc), 19 INTA (oc), 20 GPA0 (io), 21 GPA1 (io), 22 GPA2 (io), 23 GPA3 (io), 24 GPA4 (io), 25 GPA5 (io), 26 GPA6 (io), 27 GPA7 (io), 28 NC

## MCP23S18T-E/MJ
designator U?
8-Bit I/O Expander with Open-Drain Outputs, High-Speed SPI Interface, 24-Pin QFN, Extended Temperature, Tape and Reel; Manufacturer: Microchip; PartNumber: MCP23S18T-E/MJ; DatasheetVersion: revA, Sep-2008; PackageVersion: revBB, Aug-2009; PackageReference: QFN-MJ24; PackageDescription: 24-Lead Plastic Quad Flat, No Lead Package (MJ) - 4x4x0.9mm Body [QFN]; Supplier 1: Digi-Key; Supplier Part Number 1: MCP23S18T-E/MJ-ND; Supplier 2: Mouser; Supplier Part Number 2: 579-MCP23S18T-E/MJ; Mounting Technology: Surface Mount; ComponentLink1Description: Manufacturer URL; ComponentLink1URL: http://www.microchip.com/; ComponentLink2Description: Datasheet; ComponentLink2URL: http://ww1.microchip.com/downloads/en/DeviceDoc/22103a.pdf; ComponentLink3Description: Package Specification; ComponentLink3URL: http://www.microchip.com/stellent/groups/techpub_sg/documents/packagingspec/en012702.pdf
footprint QFN-MJ24 (QFN, 24-Leads, Body 4x4mm, Pitch 0.5mm, Thermal Pad 2.6x2.6mm, Microchip Recommended)
pins: 1 GPB1 (io), 2 GPB2 (io), 3 GPB3 (io), 4 GPB4 (io), 5 GPB5 (io), 6 GPB6 (io), 7 GPB7 (io), 8 VDD (power), 9 ~{CS} (in), 10 SCK (in), 11 SI (in), 12 SO (out), 13 ~{RESET} (in), 14 INTA (oc), 15 GPA0 (io), 16 GPA1 (io), 17 GPA2 (io), 18 GPA3 (io), 19 GPA4 (io), 20 GPA5 (io), 21 GPA6 (io), 22 GPA7 (io), 23 VSS (power), 24 GPB0 (io), 25 EP

## MCP23S18T-E/SO
designator U?
8-Bit I/O Expander with Open-Drain Outputs, High-Speed SPI Interface, 28-Pin SOIC, Extended Temperature, Tape and Reel; Manufacturer: Microchip; PartNumber: MCP23S18T-E/SO; DatasheetVersion: revA, Sep-2008; PackageVersion: revBB, Aug-2009; PackageReference: SOIC-SO28; PackageDescription: 28-Lead Plastic Small Outline (SO) - Wide 7.50mm Body [SOIC]; Supplier 1: Digi-Key; Supplier Part Number 1: MCP23S18T-E/SO-ND; Supplier 2: Mouser; Supplier Part Number 2: 579-MCP23S18T-E/SO; Mounting Technology: Surface Mount; Code_JEDEC: MS-013; ComponentLink1Description: Manufacturer URL; ComponentLink1URL: http://www.microchip.com/; ComponentLink2Description: Datasheet; ComponentLink2URL: http://ww1.microchip.com/downloads/en/DeviceDoc/22103a.pdf; ComponentLink3Description: Package Specification; ComponentLink3URL: http://www.microchip.com/stellent/groups/techpub_sg/documents/packagingspec/en012702.pdf
footprint SOIC-SO28_N (SOIC, 28-Leads, Body 17.9x7.5mm, Pitch 1.27mm, IPC Medium Density)
footprint SOIC-SO28_L (SOIC, 28-Leads, Body 17.9x7.5mm, Pitch 1.27mm, IPC High Density)
footprint SOIC-SO28_M (SOIC, 28-Leads, Body 17.9x7.5mm, Pitch 1.27mm, IPC Low Density)
pins: 1 VSS (power), 2 NC, 3 GPB0 (io), 4 GPB1 (io), 5 GPB2 (io), 6 GPB3 (io), 7 GPB4 (io), 8 GPB5 (io), 9 GPB6 (io), 10 GPB7 (io), 11 VDD (power), 12 ~{CS} (in), 13 SCK (in), 14 SI (in), 15 SO (out), 16 ~{RESET} (in), 17 NC, 18 INTB (oc), 19 INTA (oc), 20 GPA0 (io), 21 GPA1 (io), 22 GPA2 (io), 23 GPA3 (io), 24 GPA4 (io), 25 GPA5 (io), 26 GPA6 (io), 27 GPA7 (io), 28 NC

## MCP201-E/P
designator U?
LIN Transceiver with Voltage Regulator, 8-Pin PDIP, Extended Temperature; Manufacturer: Microchip; PartNumber: MCP201-E/P; DatasheetVersion: revF, Jan-2007; PackageVersion: revBB, Aug-2009; PackageReference: PDIP300-P8; PackageDescription: 8-Lead Plastic Dual In-Line (P) - 300 mil Body [PDIP]; Supplier 1: Digi-Key; Supplier Part Number 1: MCP201-E/P-ND; Supplier 2: Farnell; Supplier Part Number 2: 1605560; Supplier 3: Newark; Supplier Part Number 3: 11N7991; Supplier 4: Mouser; Supplier Part Number 4: 579-MCP201-E/P; Mounting Technology: Through Hole; Code_JEDEC: MS-001; ComponentLink1Description: Manufacturer URL; ComponentLink1URL: http://www.microchip.com/; ComponentLink2Description: Datasheet; ComponentLink2URL: http://ww1.microchip.com/downloads/en/DeviceDoc/21730F.pdf; ComponentLink3Description: Package Specification; ComponentLink3URL: http://www.microchip.com/stellent/groups/techpub_sg/documents/packagingspec/en012702.pdf
footprint PDIP300-P8 (DIP, 8-Leads, Row Spacing 7.62mm, Pitch 2.54mm, Body 9.5x6.6mm)
pins: 1 RXD (in), 2 CS/WAKE (out), 3 VREG (out), 4 TXD (in), 5 VSS (power), 6 LIN (io), 7 VBAT (in), 8 ~{FAULT}/SLPS (io)

## MCP201-E/SN
designator U?
LIN Transceiver with Voltage Regulator, 8-Pin SOIC, Extended Temperature; Manufacturer: Microchip; PartNumber: MCP201-E/SN; DatasheetVersion: revF, Jan-2007; PackageVersion: revBB, Aug-2009; PackageReference: SOIC-SN8; PackageDescription: 8-Lead Plastic Small Outline (SN) - Narrow, 3.90mm Body [SOIC]; Supplier 1: Digi-Key; Supplier Part Number 1: MCP201-E/SN-ND; Supplier 2: Farnell; Supplier Part Number 2: 1605561; Supplier 3: Newark; Supplier Part Number 3: 11N7992; Supplier 4: Mouser; Supplier Part Number 4: 579-MCP201-E/SN; Mounting Technology: Surface Mount; Code_JEDEC: MS-012; Code_IPC: SOIC127P600-8; ComponentLink1Description: Manufacturer URL; ComponentLink1URL: http://www.microchip.com/; ComponentLink2Description: Datasheet; ComponentLink2URL: http://ww1.microchip.com/downloads/en/DeviceDoc/21730F.pdf; ComponentLink3Description: Package Specification; ComponentLink3URL: http://www.microchip.com/stellent/groups/techpub_sg/documents/packagingspec/en012702.pdf
footprint SOIC-SN8_N (SOIC, 8-Leads, Body 4.9x3.8mm, Pitch 1.27mm, IPC Medium Density)
footprint SOIC-SN8_L (SOIC, 8-Leads, Body 4.9x3.8mm, Pitch 1.27mm, IPC High Density)
footprint SOIC-SN8_M (SOIC, 8-Leads, Body 4.9x3.8mm, Pitch 1.27mm, IPC Low Density)
pins: 1 RXD (in), 2 CS/WAKE (out), 3 VREG (out), 4 TXD (in), 5 VSS (power), 6 LIN (io), 7 VBAT (in), 8 ~{FAULT}/SLPS (io)

## MCP201-I/P
designator U?
LIN Transceiver with Voltage Regulator, 8-Pin PDIP, Industrial Temperature; Manufacturer: Microchip; PartNumber: MCP201-I/P; DatasheetVersion: revF, Jan-2007; PackageVersion: revBB, Aug-2009; PackageReference: PDIP300-P8; PackageDescription: 8-Lead Plastic Dual In-Line (P) - 300 mil Body [PDIP]; Supplier 1: Digi-Key; Supplier Part Number 1: MCP201-I/P-ND; Supplier 2: Farnell; Supplier Part Number 2: 1439385; Supplier 3: Newark; Supplier Part Number 3: 92C4162; Supplier 4: Mouser; Supplier Part Number 4: 579-MCP201-I/P; Mounting Technology: Through Hole; Code_JEDEC: MS-001; ComponentLink1Description: Manufacturer URL; ComponentLink1URL: http://www.microchip.com/; ComponentLink2Description: Datasheet; ComponentLink2URL: http://ww1.microchip.com/downloads/en/DeviceDoc/21730F.pdf; ComponentLink3Description: Package Specification; ComponentLink3URL: http://www.microchip.com/stellent/groups/techpub_sg/documents/packagingspec/en012702.pdf
footprint PDIP300-P8 (DIP, 8-Leads, Row Spacing 7.62mm, Pitch 2.54mm, Body 9.5x6.6mm)
pins: 1 RXD (in), 2 CS/WAKE (out), 3 VREG (out), 4 TXD (in), 5 VSS (power), 6 LIN (io), 7 VBAT (in), 8 ~{FAULT}/SLPS (io)

## MCP201-I/SN
designator U?
LIN Transceiver with Voltage Regulator, 8-Pin SOIC, Industrial Temperature; Manufacturer: Microchip; PartNumber: MCP201-I/SN; DatasheetVersion: revF, Jan-2007; PackageVersion: revBB, Aug-2009; PackageReference: SOIC-SN8; PackageDescription: 8-Lead Plastic Small Outline (SN) - Narrow, 3.90mm Body [SOIC]; Supplier 1: Digi-Key; Supplier Part Number 1: MCP201-I/SN-ND; Supplier 2: Farnell; Supplier Part Number 2: 1439386; Supplier 3: Newark; Supplier Part Number 3: 92C4163; Supplier 4: Mouser; Supplier Part Number 4: 579-MCP201-I/SN; Mounting Technology: Surface Mount; Code_JEDEC: MS-012; Code_IPC: SOIC127P600-8; ComponentLink1Description: Manufacturer URL; ComponentLink1URL: http://www.microchip.com/; ComponentLink2Description: Datasheet; ComponentLink2URL: http://ww1.microchip.com/downloads/en/DeviceDoc/21730F.pdf; ComponentLink3Description: Package Specification; ComponentLink3URL: http://www.microchip.com/stellent/groups/techpub_sg/documents/packagingspec/en012702.pdf
footprint SOIC-SN8_N (SOIC, 8-Leads, Body 4.9x3.8mm, Pitch 1.27mm, IPC Medium Density)
footprint SOIC-SN8_L (SOIC, 8-Leads, Body 4.9x3.8mm, Pitch 1.27mm, IPC High Density)
footprint SOIC-SN8_M (SOIC, 8-Leads, Body 4.9x3.8mm, Pitch 1.27mm, IPC Low Density)
pins: 1 RXD (in), 2 CS/WAKE (out), 3 VREG (out), 4 TXD (in), 5 VSS (power), 6 LIN (io), 7 VBAT (in), 8 ~{FAULT}/SLPS (io)

## MCP201T-E/SN
designator U?
LIN Transceiver with Voltage Regulator, 8-Pin SOIC, Extended Temperature, Tape and Reel; Manufacturer: Microchip; PartNumber: MCP201T-E/SN; DatasheetVersion: revF, Jan-2007; PackageVersion: revBB, Aug-2009; PackageReference: SOIC-SN8; PackageDescription: 8-Lead Plastic Small Outline (SN) - Narrow, 3.90mm Body [SOIC]; Supplier 1: Digi-Key; Supplier Part Number 1: MCP201T-E/SN-ND; Supplier 2: Mouser; Supplier Part Number 2: 579-MCP201T-E/SN; Mounting Technology: Surface Mount; Code_JEDEC: MS-012; Code_IPC: SOIC127P600-8; ComponentLink1Description: Manufacturer URL; ComponentLink1URL: http://www.microchip.com/; ComponentLink2Description: Datasheet; ComponentLink2URL: http://ww1.microchip.com/downloads/en/DeviceDoc/21730F.pdf; ComponentLink3Description: Package Specification; ComponentLink3URL: http://www.microchip.com/stellent/groups/techpub_sg/documents/packagingspec/en012702.pdf
footprint SOIC-SN8_N (SOIC, 8-Leads, Body 4.9x3.8mm, Pitch 1.27mm, IPC Medium Density)
footprint SOIC-SN8_L (SOIC, 8-Leads, Body 4.9x3.8mm, Pitch 1.27mm, IPC High Density)
footprint SOIC-SN8_M (SOIC, 8-Leads, Body 4.9x3.8mm, Pitch 1.27mm, IPC Low Density)
pins: 1 RXD (in), 2 CS/WAKE (out), 3 VREG (out), 4 TXD (in), 5 VSS (power), 6 LIN (io), 7 VBAT (in), 8 ~{FAULT}/SLPS (io)

## MCP201T-I/SN
designator U?
LIN Transceiver with Voltage Regulator, 8-Pin SOIC, Industrial Temperature, Tape and Reel; Manufacturer: Microchip; PartNumber: MCP201T-I/SN; DatasheetVersion: revF, Jan-2007; PackageVersion: revBB, Aug-2009; PackageReference: SOIC-SN8; PackageDescription: 8-Lead Plastic Small Outline (SN) - Narrow, 3.90mm Body [SOIC]; Supplier 1: Digi-Key; Supplier Part Number 1: MCP201T-I/SN-ND; Supplier 2: Mouser; Supplier Part Number 2: 579-MCP201T-I/SN; Mounting Technology: Surface Mount; Code_JEDEC: MS-012; Code_IPC: SOIC127P600-8; ComponentLink1Description: Manufacturer URL; ComponentLink1URL: http://www.microchip.com/; ComponentLink2Description: Datasheet; ComponentLink2URL: http://ww1.microchip.com/downloads/en/DeviceDoc/21730F.pdf; ComponentLink3Description: Package Specification; ComponentLink3URL: http://www.microchip.com/stellent/groups/techpub_sg/documents/packagingspec/en012702.pdf
footprint SOIC-SN8_N (SOIC, 8-Leads, Body 4.9x3.8mm, Pitch 1.27mm, IPC Medium Density)
footprint SOIC-SN8_L (SOIC, 8-Leads, Body 4.9x3.8mm, Pitch 1.27mm, IPC High Density)
footprint SOIC-SN8_M (SOIC, 8-Leads, Body 4.9x3.8mm, Pitch 1.27mm, IPC Low Density)
pins: 1 RXD (in), 2 CS/WAKE (out), 3 VREG (out), 4 TXD (in), 5 VSS (power), 6 LIN (io), 7 VBAT (in), 8 ~{FAULT}/SLPS (io)

## MCP795W10-I/SL
designator U?
SPI Real-Time Clock Calendar with Enhanced Features and Battery Switchover, 14-Pin SOIC, Industrial Temperature; Manufacturer: Microchip; PartNumber: MCP795W10-I/SL; DatasheetVersion: revA, Nov-2011; PackageVersion: revBB, Aug-2009; PackageReference: SOIC-SL14; PackageDescription: 14-Lead Plastic Small Outline (SL) - Narrow, 3.90mm Body [SOIC]; Supplier 1: Digi-Key; Supplier Part Number 1: MCP795W10-I/SL-ND; Supplier 2: Newark; Supplier Part Number 2: 47T5322; Supplier 3: Mouser; Supplier Part Number 3: 579-MCP795W10-I/SL; Mounting Technology: Surface Mount; Code_JEDEC: MS-012-AB; Code_IPC: SOIC127P600-14; ComponentLink1Description: Manufacturer URL; ComponentLink1URL: http://www.microchip.com/; ComponentLink2Description: Datasheet; ComponentLink2URL: http://ww1.microchip.com/downloads/en/DeviceDoc/22280A.pdf; ComponentLink3Description: Package Specification; ComponentLink3URL: http://www.microchip.com/stellent/groups/techpub_sg/documents/packagingspec/en012702.pdf
footprint SOIC-SL14_N (SOIC, 14-Leads, Body 8.7x3.9mm, Pitch 1.27mm, IPC Medium Density)
footprint SOIC-SL14_L (SOIC, 14-Leads, Body 8.7x3.9mm, Pitch 1.27mm, IPC High Density)
footprint SOIC-SL14_M (SOIC, 14-Leads, Body 8.7x3.9mm, Pitch 1.27mm, IPC Low Density)
pins: 1 X1 (in), 2 X2 (out), 3 VBAT (power), 4 ~{WDO} (oc), 5 ~{IRQ} (out), 6 ~{CS} (in), 7 VSS (power), 8 SO (hiz), 9 SI (in), 10 SCK (in), 11 EVLS (in), 12 EVHS (in), 13 CLKOUT/BOOT (out), 14 VCC (power)

## MCP795W10-I/ST
designator U?
SPI Real-Time Clock Calendar with Enhanced Features and Battery Switchover, 14-Pin TSSOP, Industrial Temperature; Manufacturer: Microchip; PartNumber: MCP795W10-I/ST; DatasheetVersion: revA, Nov-2011; PackageVersion: revBB, Aug-2009; PackageReference: TSSOP-ST14; PackageDescription: 14-Lead Plastic Thin Shrink Small Outline (ST) - 4.4mm Body [TSSOP]; Supplier 1: Digi-Key; Supplier Part Number 1: MCP795W10-I/ST-ND; Supplier 2: Newark; Supplier Part Number 2: 47T5323; Supplier 3: Mouser; Supplier Part Number 3: 579-MCP795W10-I/ST; Mounting Technology: Surface Mount; ComponentLink1Description: Manufacturer URL; ComponentLink1URL: http://www.microchip.com/; ComponentLink2Description: Datasheet; ComponentLink2URL: http://ww1.microchip.com/downloads/en/DeviceDoc/22280A.pdf; ComponentLink3Description: Package Specification; ComponentLink3URL: http://www.microchip.com/stellent/groups/techpub_sg/documents/packagingspec/en012702.pdf
footprint TSSOP-ST14_N (TSOP, 14-Leads, Body 5x4.4mm, Pitch 0.65mm, IPC Medium Density)
footprint TSSOP-ST14_L (TSOP, 14-Leads, Body 5x4.4mm, Pitch 0.65mm, IPC High Density)
footprint TSSOP-ST14_M (TSOP, 14-Leads, Body 5x4.4mm, Pitch 0.65mm, IPC Low Density)
pins: 1 X1 (in), 2 X2 (out), 3 VBAT (power), 4 ~{WDO} (oc), 5 ~{IRQ} (out), 6 ~{CS} (in), 7 VSS (power), 8 SO (hiz), 9 SI (in), 10 SCK (in), 11 EVLS (in), 12 EVHS (in), 13 CLKOUT/BOOT (out), 14 VCC (power)

## MCP795W10T-I/SL
designator U?
SPI Real-Time Clock Calendar with Enhanced Features and Battery Switchover, 14-Pin SOIC, Industrial Temperature, Tape and Reel; Manufacturer: Microchip; PartNumber: MCP795W10T-I/SL; DatasheetVersion: revA, Nov-2011; PackageVersion: revBB, Aug-2009; PackageReference: SOIC-SL14; PackageDescription: 14-Lead Plastic Small Outline (SL) - Narrow, 3.90mm Body [SOIC]; Supplier 1: Digi-Key; Supplier Part Number 1: MCP795W10T-I/SL-ND; Supplier 2: Mouser; Supplier Part Number 2: 579-MCP795W10T-I/SL; Mounting Technology: Surface Mount; Code_JEDEC: MS-012-AB; Code_IPC: SOIC127P600-14; ComponentLink1Description: Manufacturer URL; ComponentLink1URL: http://www.microchip.com/; ComponentLink2Description: Datasheet; ComponentLink2URL: http://ww1.microchip.com/downloads/en/DeviceDoc/22280A.pdf; ComponentLink3Description: Package Specification; ComponentLink3URL: http://www.microchip.com/stellent/groups/techpub_sg/documents/packagingspec/en012702.pdf
footprint SOIC-SL14_N (SOIC, 14-Leads, Body 8.7x3.9mm, Pitch 1.27mm, IPC Medium Density)
footprint SOIC-SL14_L (SOIC, 14-Leads, Body 8.7x3.9mm, Pitch 1.27mm, IPC High Density)
footprint SOIC-SL14_M (SOIC, 14-Leads, Body 8.7x3.9mm, Pitch 1.27mm, IPC Low Density)
pins: 1 X1 (in), 2 X2 (out), 3 VBAT (power), 4 ~{WDO} (oc), 5 ~{IRQ} (out), 6 ~{CS} (in), 7 VSS (power), 8 SO (hiz), 9 SI (in), 10 SCK (in), 11 EVLS (in), 12 EVHS (in), 13 CLKOUT/BOOT (out), 14 VCC (power)

## MCP795W10T-I/ST
designator U?
SPI Real-Time Clock Calendar with Enhanced Features and Battery Switchover, 14-Pin TSSOP, Industrial Temperature, Tape and Reel; Manufacturer: Microchip; PartNumber: MCP795W10T-I/ST; DatasheetVersion: revA, Nov-2011; PackageVersion: revBB, Aug-2009; PackageReference: TSSOP-ST14; PackageDescription: 14-Lead Plastic Thin Shrink Small Outline (ST) - 4.4mm Body [TSSOP]; Supplier 1: Digi-Key; Supplier Part Number 1: MCP795W10T-I/ST-ND; Supplier 2: Mouser; Supplier Part Number 2: 579-MCP795W10T-I/ST; Mounting Technology: Surface Mount; ComponentLink1Description: Manufacturer URL; ComponentLink1URL: http://www.microchip.com/; ComponentLink2Description: Datasheet; ComponentLink2URL: http://ww1.microchip.com/downloads/en/DeviceDoc/22280A.pdf; ComponentLink3Description: Package Specification; ComponentLink3URL: http://www.microchip.com/stellent/groups/techpub_sg/documents/packagingspec/en012702.pdf
footprint TSSOP-ST14_N (TSOP, 14-Leads, Body 5x4.4mm, Pitch 0.65mm, IPC Medium Density)
footprint TSSOP-ST14_L (TSOP, 14-Leads, Body 5x4.4mm, Pitch 0.65mm, IPC High Density)
footprint TSSOP-ST14_M (TSOP, 14-Leads, Body 5x4.4mm, Pitch 0.65mm, IPC Low Density)
pins: 1 X1 (in), 2 X2 (out), 3 VBAT (power), 4 ~{WDO} (oc), 5 ~{IRQ} (out), 6 ~{CS} (in), 7 VSS (power), 8 SO (hiz), 9 SI (in), 10 SCK (in), 11 EVLS (in), 12 EVHS (in), 13 CLKOUT/BOOT (out), 14 VCC (power)

## MCP795W11-I/SL
designator U?
SPI Real-Time Clock Calendar with Enhanced Features and Battery Switchover, 14-Pin SOIC, Industrial Temperature; Manufacturer: Microchip; PartNumber: MCP795W11-I/SL; DatasheetVersion: revA, Nov-2011; PackageVersion: revBB, Aug-2009; PackageReference: SOIC-SL14; PackageDescription: 14-Lead Plastic Small Outline (SL) - Narrow, 3.90mm Body [SOIC]; Supplier 1: Digi-Key; Supplier Part Number 1: MCP795W11-I/SL-ND; Supplier 2: Mouser; Supplier Part Number 2: 579-MCP795W11-I/SL; Mounting Technology: Surface Mount; Code_JEDEC: MS-012-AB; Code_IPC: SOIC127P600-14; ComponentLink1Description: Manufacturer URL; ComponentLink1URL: http://www.microchip.com/; ComponentLink2Description: Datasheet; ComponentLink2URL: http://ww1.microchip.com/downloads/en/DeviceDoc/22280A.pdf; ComponentLink3Description: Package Specification; ComponentLink3URL: http://www.microchip.com/stellent/groups/techpub_sg/documents/packagingspec/en012702.pdf
footprint SOIC-SL14_N (SOIC, 14-Leads, Body 8.7x3.9mm, Pitch 1.27mm, IPC Medium Density)
footprint SOIC-SL14_L (SOIC, 14-Leads, Body 8.7x3.9mm, Pitch 1.27mm, IPC High Density)
footprint SOIC-SL14_M (SOIC, 14-Leads, Body 8.7x3.9mm, Pitch 1.27mm, IPC Low Density)
pins: 1 X1 (in), 2 X2 (out), 3 VBAT (power), 4 ~{WDO} (oc), 5 ~{IRQ} (out), 6 ~{CS} (in), 7 VSS (power), 8 SO (hiz), 9 SI (in), 10 SCK (in), 11 EVLS (in), 12 EVHS (in), 13 CLKOUT/BOOT (out), 14 VCC (power)